# Altium schematic symbol library SG_SCH_Fomin.SchLib: 36 symbols
Pins are listed as number, name and electrical type; pins without a type are passive.

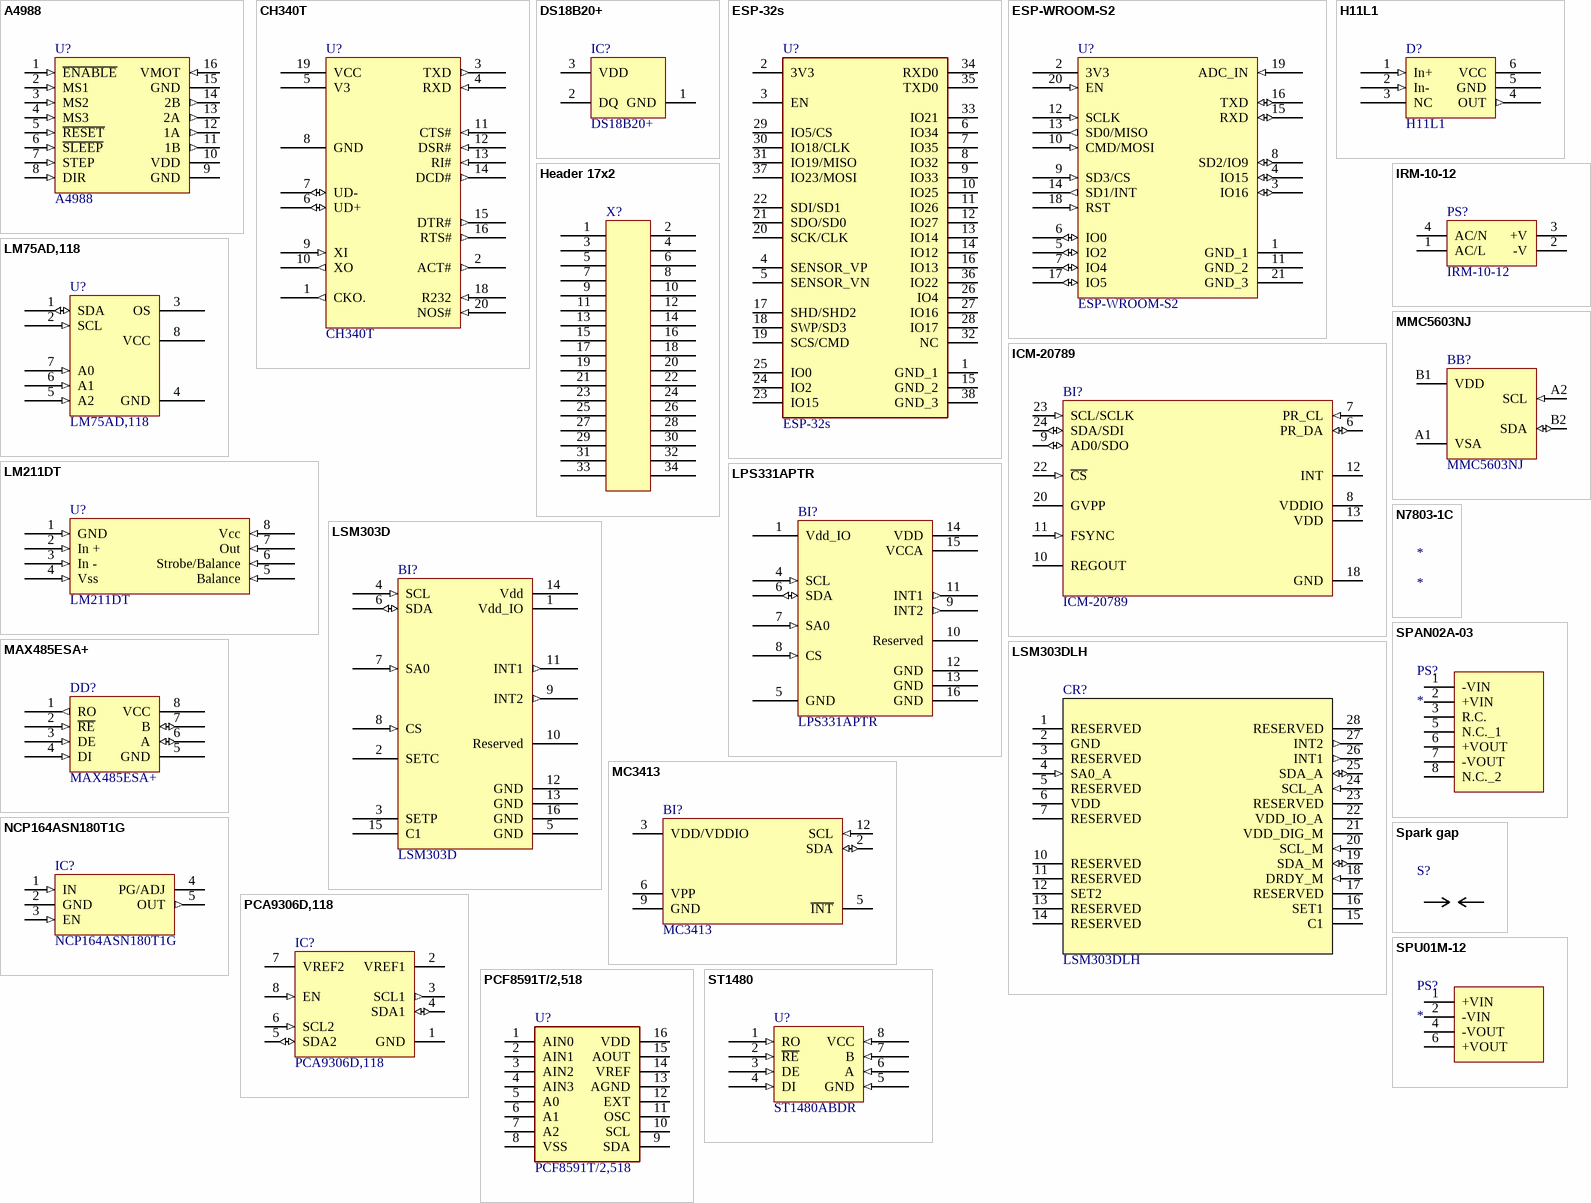
[diagram p0: symbols A4988 to ST1480]

## A4988
designator U?
STEPPER DRIVER; Order: *A4988
footprint A4988 (STEPPER DRIVER)
pins: 1 ~{ENABLE} (in), 2 MS1 (in), 3 MS2 (in), 4 MS3 (in), 5 ~{RESET} (in), 6 ~{SLEEP} (in), 7 STEP (in), 8 DIR (in), 9 GND (power), 10 VDD (power), 11 1B (out), 12 1A (out), 13 2A (out), 14 2B (out), 15 GND (power), 16 VMOT (in)

## CH340T
designator U?
USB-UART Converter; Order: CH340T
footprint SSOP20 (SOP, 20-Leads, Body 7.2x5.3mm, Pitch 0.65mm, IPC Low Density)
pins: 1 CKO. (out), 2 ACT# (out), 3 TXD (out), 4 RXD (in), 5 V3 (power), 6 UD+ (io), 7 UD- (io), 8 GND (power), 9 XI (in), 10 XO (out), 11 CTS# (in), 12 DSR# (in), 13 RI# (in), 14 DCD# (out), 15 DTR# (out), 16 RTS# (out), 18 R232 (in), 19 VCC (power), 20 NOS# (in)

## DS18B20+
designator IC?
Temperature sensor; Order: DS18B20
footprint TO-92
pins: 1 GND, 2 DQ, 3 VDD

## ESP-32s
designator U?
Undefined or Miscellaneous; Manufacturer_Name: Ai-Thinker; Manufacturer_Part_Number: ESP-32s
footprint ESP-32S
pins: 1 GND_1, 2 3V3, 3 EN, 4 SENSOR_VP, 5 SENSOR_VN, 6 IO34, 7 IO35, 8 IO32, 9 IO33, 10 IO25, 11 IO26, 12 IO27, 13 IO14, 14 IO12, 15 GND_2, 16 IO13, 17 SHD/SHD2, 18 SWP/SD3, 19 SCS/CMD, 20 SCK/CLK, 21 SDO/SD0, 22 SDI/SD1, 23 IO15, 24 IO2, 25 IO0, 26 IO4, 27 IO16, 28 IO17, 29 IO5/CS, 30 IO18/CLK, 31 IO19/MISO, 32 NC, 33 IO21, 34 RXD0, 35 TXD0, 36 IO22, 37 IO23/MOSI, 38 GND_3

## ESP-WROOM-S2
designator U?
WiFi Modules (802.11); Height: 2.9mm; Order: *
footprint ESPWROOMS2
pins: 1 GND_1 (power), 2 3V3 (power), 3 IO16 (io), 4 IO15 (io), 5 IO2 (io), 6 IO0 (io), 7 IO4 (io), 8 SD2/IO9 (io), 9 SD3/CS (in), 10 CMD/MOSI (in), 11 GND_2 (power), 12 SCLK (in), 13 SD0/MISO (out), 14 SD1/INT (out), 15 RXD (io), 16 TXD (io), 17 IO5 (io), 18 RST (in), 19 ADC_IN (in), 20 EN (in), 21 GND_3 (power)

## H11L1
designator D?
footprint PDIP 646BY (Logic Output Opto-couplers)
pins: 1 In+ (in), 2 In- (in), 3 NC, 4 OUT (out), 5 GND (power), 6 VCC (power)

## Header 17x2
designator X?  (value not drawn)
17x2 Header; System: Connector; OriginalSource: AltTab; Order: *; DefaultOrder: *
footprint IDC34
pins: 1 (hiz), 2 (hiz), 3 (hiz), 4 (hiz), 5 (hiz), 6 (hiz), 7 (hiz), 8 (hiz), 9 (hiz), 10 (hiz), 11 (hiz), 12 (hiz), 13 (hiz), 14 (hiz), 15 (hiz), 16 (hiz), 17 (hiz), 18 (hiz), 19 (hiz), 20 (hiz), 21 (hiz), 22 (hiz), 23 (hiz), 24 (hiz), 25 (hiz), 26 (hiz), 27 (hiz), 28 (hiz), 29 (hiz), 30 (hiz), 31 (hiz), 32 (hiz), 33 (hiz), 34 (hiz)

## ICM-20789
designator BI?
7-axis Gyroscope and accelerometer sensor; OriginalSource: MinisatMEMS; HelpURL: https://www.mouser.com/datasheet/2/400/DS-000169-ICM-20789-TYP-v1.3-1307758.pdf; Order: *; DefaultOrder: ICM-20789
footprint LGA-24_ICM-20789
pins: 6 PR_DA (io), 7 PR_CL (in), 8 VDDIO (power), 9 AD0/SDO (io), 10 REGOUT (power), 11 FSYNC (in), 12 INT (oc), 13 VDD (power), 18 GND (power), 20 GVPP (power), 22 ~{CS} (in), 23 SCL/SCLK (in), 24 SDA/SDI (io)

## IRM-10-12
designator PS?
Power Supply; Manufacturer_Name: Mean Well; Datasheet Link: https://www.meanwellusa.com/webapp/product/search.aspx?prod=IRM-10; Manufacturer_Part_Number: IRM-10-12; Mouser Part Number: 709-IRM10-12; Mouser Price/Stock: https://www.mouser.co.uk/ProductDetail/MEAN-WELL/IRM-10-12?qs=WkdRfq4wf1Mps3oD7xn11w%3D%3D; Arrow Part Number: IRM-10-12; Arrow Price/Stock: https://www.arrow.com/en/products/irm-10-12/mean-well-enterprises?region=europe; Order: *
footprint IRM-10
pins: 1 AC/L, 2 -V, 3 +V, 4 AC/N

## LM75AD,118
designator U?
Temperature sensor; Order: *
footprint SO-8 (Small Outline; 8 Leads; Body Width 3.9 mm; Pitch 1.27 mm)
pins: 1 SDA (io), 2 SCL (in), 3 OS (oc), 4 GND (power), 5 A2 (in), 6 A1 (in), 7 A0 (in), 8 VCC (power)

## LM211DT
designator U?
Differential Comparator
footprint SO-8 (Small Outline; 8 Leads; Body Width 3.9 mm; Pitch 1.27 mm)
pins: 1 GND (in), 2 In + (in), 3 In - (in), 4 Vss (in), 5 Balance (in), 6 Strobe/Balance (in), 7 Out (in), 8 Vcc (in)

## LPS331APTR
designator BI?
Pressure Sensors; Order: LPS331APTR
footprint LGA-16L_LSM303D (QFN, 16-Leads, Body 3,00x3,00mm, Pitch 0,50mm, Thermal Pad 1,25x2,25mm, IPC Medium Density)
pins: 1 Vdd_IO (power), 4 SCL (in), 5 GND (power), 6 SDA (io), 7 SA0 (in), 8 CS (in), 9 INT2 (out), 10 Reserved, 11 INT1 (out), 12 GND (power), 13 GND (power), 14 VDD (power), 15 VCCA (power), 16 GND (power)

## LSM303D
designator BI?
3 axis accelerometer + 3 axis magnetometer; Order: LSM303D
footprint LGA-16L_LSM303D (QFN, 16-Leads, Body 3,00x3,00mm, Pitch 0,50mm, Thermal Pad 1,25x2,25mm, IPC Medium Density)
pins: 1 Vdd_IO (power), 2 SETC, 3 SETP, 4 SCL (in), 5 GND (power), 6 SDA (io), 7 SA0 (in), 8 CS (in), 9 INT2 (out), 10 Reserved, 11 INT1 (out), 12 GND (power), 13 GND (power), 14 Vdd (power), 15 C1, 16 GND (power)

## LSM303DLH
designator CR?
3 axis accelerometer + 3 axis magnetometerle; Order: LSM303DLH
footprint LGA-28L (QFN, 28-Leads, Body 5,00x5,00mm, Pitch 0,55mm, Thermal Pad 3,60x3,60mm, IPC Medium Density)
pins: 1 RESERVED, 2 GND (power), 3 RESERVED, 4 SA0_A (in), 5 RESERVED, 6 VDD (power), 7 RESERVED, 10 RESERVED, 11 RESERVED, 12 SET2, 13 RESERVED, 14 RESERVED, 15 C1, 16 SET1, 17 RESERVED, 18 DRDY_M (in), 19 SDA_M (io), 20 SCL_M (in), 21 VDD_DIG_M (power), 22 VDD_IO_A (power), 23 RESERVED, 24 SCL_A (in), 25 SDA_A (io), 26 INT1 (out), 27 INT2 (out), 28 RESERVED

## MAX485ESA+
designator DD?
RS-422/RS-485 Interface IC; Order: *
footprint SO-8 (Small Outline; 8 Leads; Body Width 3.9 mm; Pitch 1.27 mm)
pins: 1 RO (out), 2 ~{RE} (in), 3 DE (in), 4 DI (in), 5 GND (power), 6 A (io), 7 B (io), 8 VCC (power)

## MC3413
designator BI?
3-axis accelerometer; OriginalSource: MinisatMEMS; Order: *; HelpURL: https://ru.mouser.com/datasheet/2/821/MC3413_Preliminary_Datasheet_APS_048_0029v1_7-2025058.pdf; DefaultOrder: MC3413
footprint LGA-12_MC3413
pins: 2 SDA (io), 3 VDD/VDDIO (power), 5 ~{INT} (oc), 6 VPP (power), 9 GND (power), 12 SCL (in)

## MMC5603NJ
designator BB?
3-axis magnetic sensor; ALternatePart: MMC5633NJL; OriginalSource: MinisatMEMS; HelpURL: https://ru.mouser.com/datasheet/2/821/Memsic_09102019_MMC5603NJ_Datasheet_Rev.B-1635324.pdf; Order: *; DefaultOrder: MMC5603NJ
footprint WLP-4_MMC5603
pins: A1 VSA (power), A2 SCL (in), B1 VDD (power), B2 SDA (io)

## N7803-1C
designator *

## NCP164ASN180T1G
designator IC?
LDO Voltage Regulators; Order: NCP164ASN180T1G
footprint TSOP-5
pins: 1 IN (in), 2 GND (power), 3 EN (in), 4 PG/ADJ (oc), 5 OUT (out)

## PCA9306D,118
designator IC?
Voltage-level translator; Order: PCA9306D
footprint SO-8 (Small Outline; 8 Leads; Body Width 3.9 mm; Pitch 1.27 mm)
pins: 1 GND (power), 2 VREF1 (power), 3 SCL1 (out), 4 SDA1 (io), 5 SDA2 (io), 6 SCL2 (in), 7 VREF2 (power), 8 EN (in)

## PCF8591T/2,518
designator U?
A/D and D/A converter
footprint SO-16_300mil
pins: 1 AIN0, 2 AIN1, 3 AIN2, 4 AIN3, 5 A0, 6 A1, 7 A2, 8 VSS, 9 SDA, 10 SCL, 11 OSC, 12 EXT, 13 AGND, 14 VREF, 15 AOUT, 16 VDD

## SPAN02A-03
designator PS?
Power Supply; Manufacturer_Name: Mean Well; Manufacturer_Part_Number: SPAN02A-03; Datasheet Link: https://datasheet.datasheetarchive.com/originals/distributors/DKDS-2/37032.pdf; Height: 11.1mm; Mouser Part Number: 709-SPAN02A-03; Mouser Price/Stock: https://www.mouser.co.uk/ProductDetail/MEAN-WELL/SPAN02A-03?qs=5aG0NVq1C4z4Krpfyt5B3Q%3D%3D; Order: *
footprint SPAN02A03
pins: 1 -VIN, 2 +VIN, 3 R.C., 5 N.C._1, 6 +VOUT, 7 -VOUT, 8 N.C._2

## Spark gap
designator S?
Order: *
footprint Spark Gap 2mm
footprint B88069-X4920 (Spark gap)
pins: 1, 2

## SPU01M-12
designator PS?
Power Supply; Manufacturer_Name: Mean Well; Manufacturer_Part_Number: SPU01M-12; Datasheet Link: http://www.meanwellusa.com/productPdf.aspx?i=789; Height: 10mm; Mouser Part Number: 709-SPU01M-12; Mouser Price/Stock: https://www.mouser.co.uk/ProductDetail/MEAN-WELL/SPU01M-12?qs=5aG0NVq1C4xTuLcwzli1XA%3D%3D; Arrow Part Number: SPU01M-12; Arrow Price/Stock: https://www.arrow.com/en/products/spu01m-12/mean-well-enterprises?region=nac; Order: *
footprint SPU01M12
pins: 1 +VIN, 2 -VIN, 4 -VOUT, 6 +VOUT

## ST1480
designator U?, comment ST1480ABDR
RS485 transceiver; Order: *
footprint SO-8 (Small Outline; 8 Leads; Body Width 3.9 mm; Pitch 1.27 mm)
pins: 1 RO (in), 2 ~{RE} (in), 3 DE (in), 4 DI (in), 5 GND (in), 6 A (in), 7 B (in), 8 VCC (in)

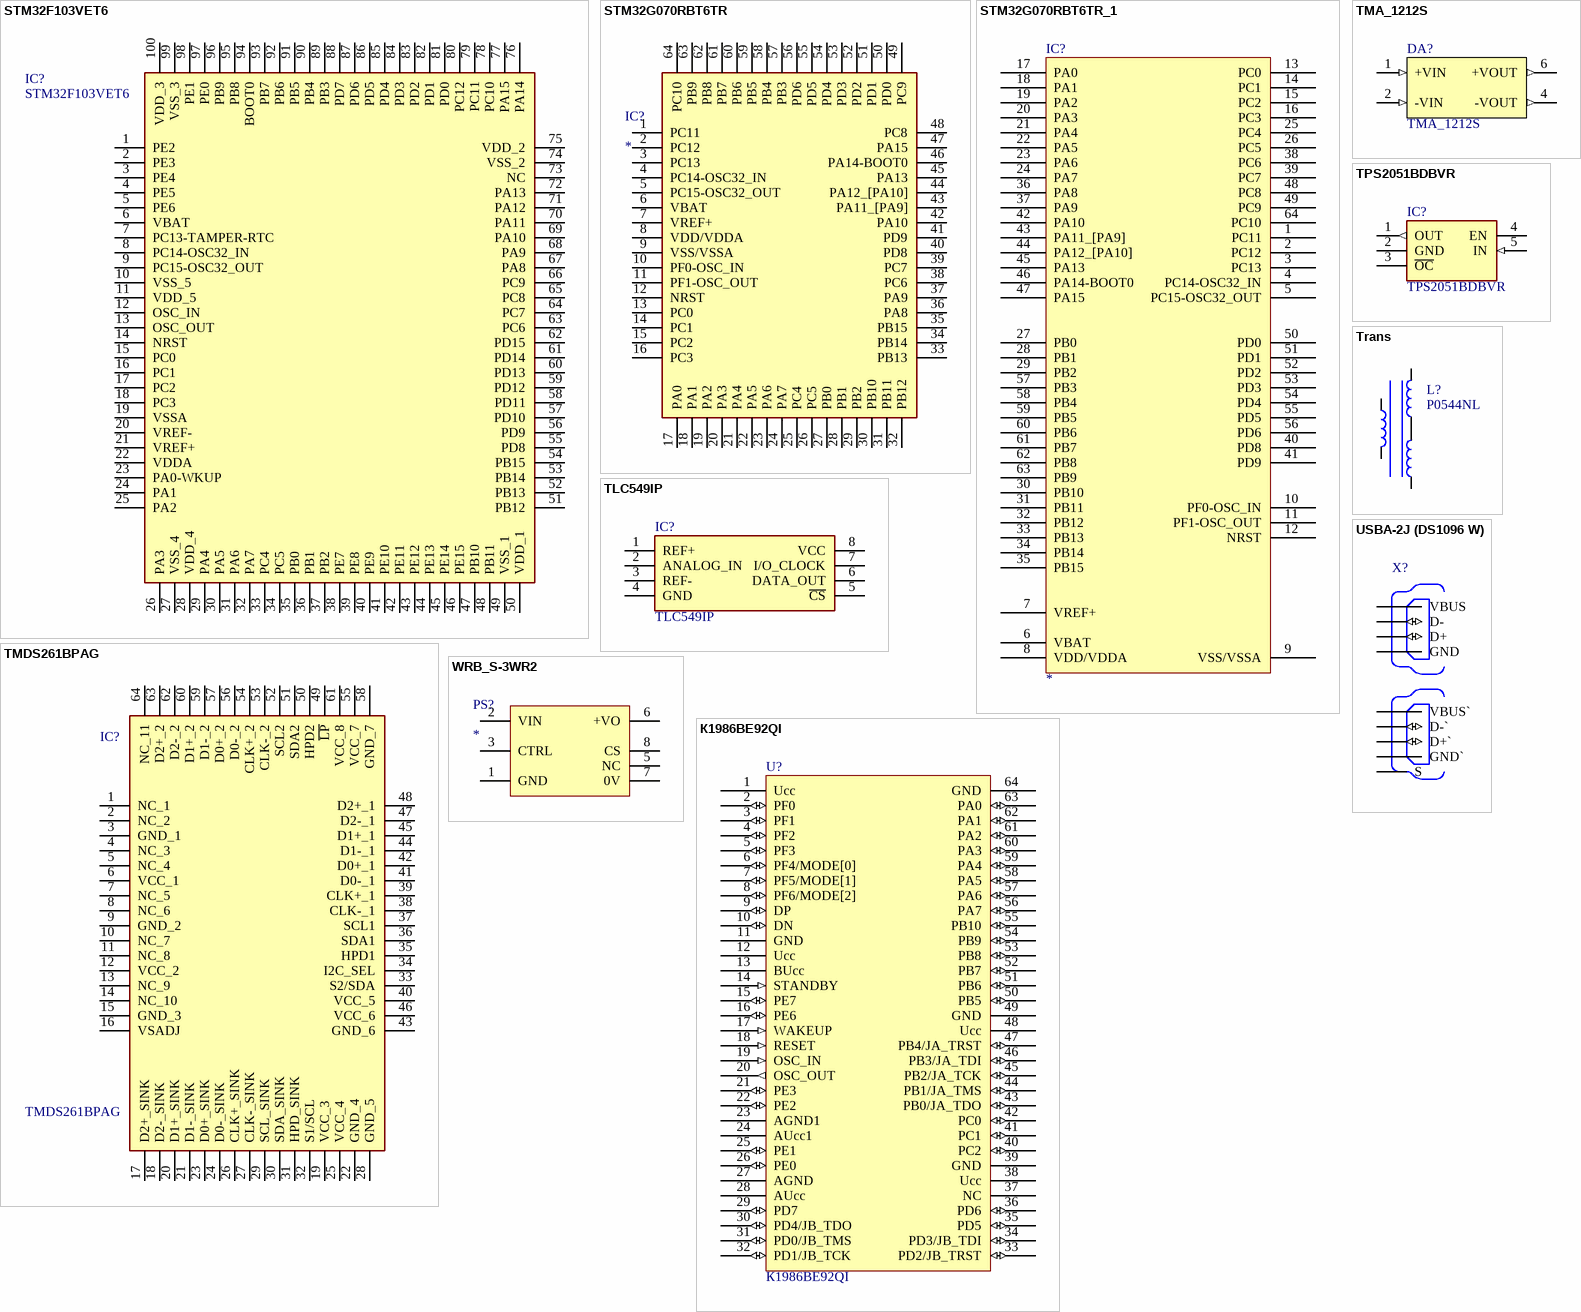
[diagram p1: symbols STM32F103VET6 to К1986ВЕ92QI]

## STM32F103VET6
designator IC?
Integrated Circuit; Manufacturer_Name: STMicroelectronics; Datasheet Link: http://www.st.com/st-web-ui/static/active/en/resource/technical/document/datasheet/CD00191185.pdf; Height: 1.6mm; Manufacturer_Part_Number: STM32F103VET6; Mouser Part Number: 511-STM32F103VET6; Mouser Price/Stock: https://www.mouser.co.uk/ProductDetail/STMicroelectronics/STM32F103VET6?qs=tZXS5FmuAdko02Tc%252BqVbzw%3D%3D; Arrow Part Number: STM32F103VET6; Arrow Price/Stock: https://www.arrow.com/en/products/stm32f103vet6/stmicroelectronics?utm_currency=USD&region=nac; Order: STM32F103VET6
footprint QFP50P1600X1600X160-100N
pins: 1 PE2, 2 PE3, 3 PE4, 4 PE5, 5 PE6, 6 VBAT, 7 PC13-TAMPER-RTC, 8 PC14-OSC32_IN, 9 PC15-OSC32_OUT, 10 VSS_5, 11 VDD_5, 12 OSC_IN, 13 OSC_OUT, 14 NRST, 15 PC0, 16 PC1, 17 PC2, 18 PC3, 19 VSSA, 20 VREF-, 21 VREF+, 22 VDDA, 23 PA0-WKUP, 24 PA1, 25 PA2, 26 PA3, 27 VSS_4, 28 VDD_4, 29 PA4, 30 PA5, 31 PA6, 32 PA7, 33 PC4, 34 PC5, 35 PB0, 36 PB1, 37 PB2, 38 PE7, 39 PE8, 40 PE9, 41 PE10, 42 PE11, 43 PE12, 44 PE13, 45 PE14, 46 PE15, 47 PB10, 48 PB11, 49 VSS_1, 50 VDD_1, 51 PB12, 52 PB13, 53 PB14, 54 PB15, 55 PD8, 56 PD9, 57 PD10, 58 PD11, 59 PD12, 60 PD13, 61 PD14, 62 PD15, 63 PC6, 64 PC7, 65 PC8, 66 PC9, 67 PA8, 68 PA9, 69 PA10, 70 PA11, 71 PA12, 72 PA13, 73 NC, 74 VSS_2, 75 VDD_2, 76 PA14, 77 PA15, 78 PC10, 79 PC11, 80 PC12, 81 PD0, 82 PD1, 83 PD2, 84 PD3, 85 PD4, 86 PD5, 87 PD6, 88 PD7, 89 PB3, 90 PB4, 91 PB5, 92 PB6, 93 PB7, 94 BOOT0, 95 PB8, 96 PB9, 97 PE0, 98 PE1, 99 VSS_3, 100 VDD_3

## STM32G070RBT6TR
designator IC?
Integrated Circuit; Manufacturer_Name: STMicroelectronics; Manufacturer_Part_Number: STM32G070RBT6TR; Datasheet Link: https://www.st.com/resource/en/datasheet/stm32g070cb.pdf; Height: 1.6mm; Mouser Part Number: 511-STM32G070RBT6TR; Mouser Price/Stock: https://www.mouser.co.uk/ProductDetail/STMicroelectronics/STM32G070RBT6TR?qs=CiayqK2gdcLkxWGv2%252BAl%252BA%3D%3D; Arrow Part Number: STM32G070RBT6TR; Arrow Price/Stock: https://www.arrow.com/en/products/stm32g070rbt6tr/stmicroelectronics?region=nac
footprint LQFP-64
pins: 1 PC11, 2 PC12, 3 PC13, 4 PC14-OSC32_IN, 5 PC15-OSC32_OUT, 6 VBAT, 7 VREF+, 8 VDD/VDDA, 9 VSS/VSSA, 10 PF0-OSC_IN, 11 PF1-OSC_OUT, 12 NRST, 13 PC0, 14 PC1, 15 PC2, 16 PC3, 17 PA0, 18 PA1, 19 PA2, 20 PA3, 21 PA4, 22 PA5, 23 PA6, 24 PA7, 25 PC4, 26 PC5, 27 PB0, 28 PB1, 29 PB2, 30 PB10, 31 PB11, 32 PB12, 33 PB13, 34 PB14, 35 PB15, 36 PA8, 37 PA9, 38 PC6, 39 PC7, 40 PD8, 41 PD9, 42 PA10, 43 PA11_[PA9], 44 PA12_[PA10], 45 PA13, 46 PA14-BOOT0, 47 PA15, 48 PC8, 49 PC9, 50 PD0, 51 PD1, 52 PD2, 53 PD3, 54 PD4, 55 PD5, 56 PD6, 57 PB3, 58 PB4, 59 PB5, 60 PB6, 61 PB7, 62 PB8, 63 PB9, 64 PC10

## STM32G070RBT6TR_1
designator IC?
Integrated Circuit; Manufacturer_Name: STMicroelectronics; Manufacturer_Part_Number: STM32G070RBT6TR; Datasheet Link: https://www.st.com/resource/en/datasheet/stm32g070cb.pdf; Height: 1.6mm; Mouser Part Number: 511-STM32G070RBT6TR; Mouser Price/Stock: https://www.mouser.co.uk/ProductDetail/STMicroelectronics/STM32G070RBT6TR?qs=CiayqK2gdcLkxWGv2%252BAl%252BA%3D%3D; Arrow Part Number: STM32G070RBT6TR; Arrow Price/Stock: https://www.arrow.com/en/products/stm32g070rbt6tr/stmicroelectronics?region=nac
footprint LQFP-64
pins: 1 PC11, 2 PC12, 3 PC13, 4 PC14-OSC32_IN, 5 PC15-OSC32_OUT, 6 VBAT, 7 VREF+, 8 VDD/VDDA, 9 VSS/VSSA, 10 PF0-OSC_IN, 11 PF1-OSC_OUT, 12 NRST, 13 PC0, 14 PC1, 15 PC2, 16 PC3, 17 PA0, 18 PA1, 19 PA2, 20 PA3, 21 PA4, 22 PA5, 23 PA6, 24 PA7, 25 PC4, 26 PC5, 27 PB0, 28 PB1, 29 PB2, 30 PB10, 31 PB11, 32 PB12, 33 PB13, 34 PB14, 35 PB15, 36 PA8, 37 PA9, 38 PC6, 39 PC7, 40 PD8, 41 PD9, 42 PA10, 43 PA11_[PA9], 44 PA12_[PA10], 45 PA13, 46 PA14-BOOT0, 47 PA15, 48 PC8, 49 PC9, 50 PD0, 51 PD1, 52 PD2, 53 PD3, 54 PD4, 55 PD5, 56 PD6, 57 PB3, 58 PB4, 59 PB5, 60 PB6, 61 PB7, 62 PB8, 63 PB9, 64 PC10

## TLC549IP
designator IC?
Analog to digital converter; Manufacturer_Name: Texas Instruments; Datasheet Link: https://datasheet.datasheetarchive.com/originals/distributors/Datasheets-SFU2/DSASFU100030479.pdf; Height: 5.08mm; Manufacturer_Part_Number: TLC549IP; Mouser Part Number: 595-TLC549IP; Mouser Price/Stock: https://www.mouser.co.uk/ProductDetail/Texas-Instruments/TLC549IP?qs=HE9hdJajmeqYsY4NRBwfLw%3D%3D; Arrow Part Number: TLC549IP; Arrow Price/Stock: https://www.arrow.com/en/products/tlc549ip/texas-instruments
footprint DIP-8-300 (DIP; 8 Leads; Row Spacing 7.62 mm; Pitch 2.54 mm)
pins: 1 REF+, 2 ANALOG_IN, 3 REF-, 4 GND, 5 ~{CS}, 6 DATA_OUT, 7 I/O_CLOCK, 8 VCC

## TMA_1212S
designator DA?
DC/DC Converter; Availability: Unavailable; Package: None; Price: None; MP: TMA_1212S; Order: *
footprint TMA_1212S
pins: 1 +VIN (in), 2 -VIN (in), 4 -VOUT (out), 6 +VOUT (out)

## TMDS261BPAG
designator IC?
Two-Port HDMI Switch; Order: TMDS261BPAG
footprint QFP50P1200X1200X120-64N
pins: 1 NC_1, 2 NC_2, 3 GND_1, 4 NC_3, 5 NC_4, 6 VCC_1, 7 NC_5, 8 NC_6, 9 GND_2, 10 NC_7, 11 NC_8, 12 VCC_2, 13 NC_9, 14 NC_10, 15 GND_3, 16 VSADJ, 17 D2+_SINK, 18 D2-_SINK, 19 VCC_3, 20 D1+_SINK, 21 D1-_SINK, 22 GND_4, 23 D0+_SINK, 24 D0-_SINK, 25 VCC_4, 26 CLK+_SINK, 27 CLK-_SINK, 28 GND_5, 29 SCL_SINK, 30 SDA_SINK, 31 HPD_SINK, 32 S1/SCL, 33 S2/SDA, 34 I2C_SEL, 35 HPD1, 36 SDA1, 37 SCL1, 38 CLK-_1, 39 CLK+_1, 40 VCC_5, 41 D0-_1, 42 D0+_1, 43 GND_6, 44 D1-_1, 45 D1+_1, 46 VCC_6, 47 D2-_1, 48 D2+_1, 49 ~{LP}, 50 HPD2, 51 SDA2, 52 SCL2, 53 CLK-_2, 54 CLK+_2, 55 VCC_7, 56 D0-_2, 57 D0+_2, 58 GND_7, 59 D1-_2, 60 D1+_2, 61 VCC_8, 62 D2-_2, 63 D2+_2, 64 NC_11

## TPS2051BDBVR
designator IC?
Integrated Circuit; Manufacturer_Name: Texas Instruments; Datasheet Link: http://www.ti.com/lit/ds/symlink/tps2051b.pdf; Height: 1.45mm; Manufacturer_Part_Number: TPS2051BDBVR; Mouser Part Number: 595-TPS2051BDBVR; Mouser Price/Stock: https://www.mouser.co.uk/ProductDetail/Texas-Instruments/TPS2051BDBVR?qs=7kv20MEVUljVx%2Fqc0C%252Bidw%3D%3D; Arrow Part Number: TPS2051BDBVR; Arrow Price/Stock: https://www.arrow.com/en/products/tps2051bdbvr/texas-instruments?region=nac
footprint SOT23-5
pins: 1 OUT (out), 2 GND (power), 3 ~{OC}, 4 EN, 5 IN (in)

## Trans
designator L?, comment P0544NL
Order: P0544NL
pins: 1 7, 1 7, 1 7, 2 8, 2 8, 2 8

## USBA-2J (DS1096 W)
designator X?, comment Double USB  (value not drawn)
USB-A _USB TYPE-A_, Stacked USB 2.0 Receptacle Connector 8 Position Through Hole, Right Angle; MP: 72309-8034BLF; MF: Amphenol ICC; Package: None; Digi-Key_Purchase_URL: https://www.digikey.pk/product-detail/en/amphenol-icc-fci/72309-8034BLF/609-1040-ND/1001354?utm_source=snapeda&utm_medium=aggregator&utm_campaign=symbol; Digi-Key_Part_Number: 609-1040-ND; SnapEDA_Link: https://www.snapeda.com/parts/72309-8034BLF/Amphenol%20FCI/view-part/2767195/?ref=snap; Value: *
footprint USBA-2J (DS1096 W) (Double USB); pin to pad 2>1
pins: 1 S (power), 2 S (power), A1 VBUS` (power), A2 D-` (io), A3 D+` (io), A4 GND` (power), B1 VBUS (power), B2 D- (io), B3 D+ (io), B4 GND (power)

## WRB_S-3WR2
designator PS?
Isolated DC-DC; Manufacturer_Name: Mornsun Power; Manufacturer_Part_Number: WRB2405S-3WR2; Datasheet Link: https://www.mornsun-power.com/html/pdf/WRB2405S-3WR2.html; Height: 12.25mm; Order: *
footprint WRB2405S3WR2
pins: 1 GND, 2 VIN, 3 CTRL, 5 NC, 6 +VO, 7 0V, 8 CS

## К1986ВЕ92QI
designator U?
Миландр; Order: К1986ВЕ92QI
footprint LQFP-64
pins: 1 Ucc (power), 2 PF0 (io), 3 PF1 (io), 4 PF2 (io), 5 PF3 (io), 6 PF4/MODE[0] (io), 7 PF5/MODE[1] (io), 8 PF6/MODE[2] (io), 9 DP (io), 10 DN (io), 11 GND (power), 12 Ucc (power), 13 BUcc (power), 14 STANDBY (in), 15 PE7 (io), 16 PE6 (io), 17 WAKEUP (in), 18 RESET (in), 19 OSC_IN (in), 20 OSC_OUT (out), 21 PE3 (io), 22 PE2 (io), 23 AGND1 (power), 24 AUcc1 (power), 25 PE1 (io), 26 PE0 (io), 27 AGND (power), 28 AUcc (power), 29 PD7 (io), 30 PD4/JB_TDO (io), 31 PD0/JB_TMS (io), 32 PD1/JB_TCK (io), 33 PD2/JB_TRST (io), 34 PD3/JB_TDI (io), 35 PD5 (io), 36 PD6 (io), 37 NC, 38 Ucc (power), 39 GND (power), 40 PC2 (io), 41 PC1 (io), 42 PC0 (io), 43 PB0/JA_TDO (io), 44 PB1/JA_TMS (io), 45 PB2/JA_TCK (io), 46 PB3/JA_TDI (io), 47 PB4/JA_TRST (io), 48 Ucc (power), 49 GND (power), 50 PB5 (io), 51 PB6 (io), 52 PB7 (io), 53 PB8 (io), 54 PB9 (io), 55 PB10 (io), 56 PA7 (io), 57 PA6 (io), 58 PA5 (io), 59 PA4 (io), 60 PA3 (io), 61 PA2 (io), 62 PA1 (io), 63 PA0 (io), 64 GND (power)